# EAGLE library part HEADER-2X6 (library Kemper-Connectors)
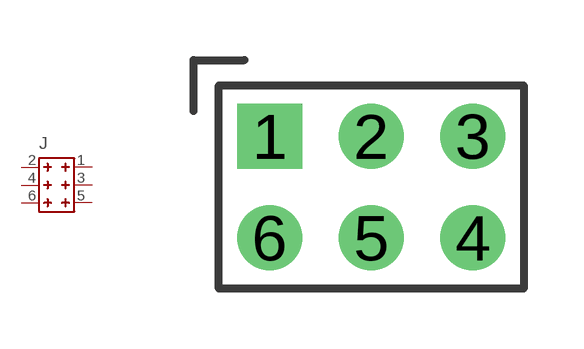
[diagram p1: symbol with the pads of HEADER-2X6; footprint HEADER-2X6]

Designator prefix J

## HEADER-2X6  [HEADER-2X6]
1  1
2  2
3  3
4  4
5  5
6  6

## Footprint HEADER-2X6 (pad centres in mm)
drill 1.016 pad 1.626 square: 1 0,0
drill 1.016 pad 1.626: 2 2.54,0; 3 5.08,0; 4 5.08,-2.54; 5 2.54,-2.54; 6 0,-2.54